# EAGLE library part FRDM-KL25Z (library ee192)
Shield for Freescale Freedom board FRDM-KL25Z 2012 by skot croshere 2013
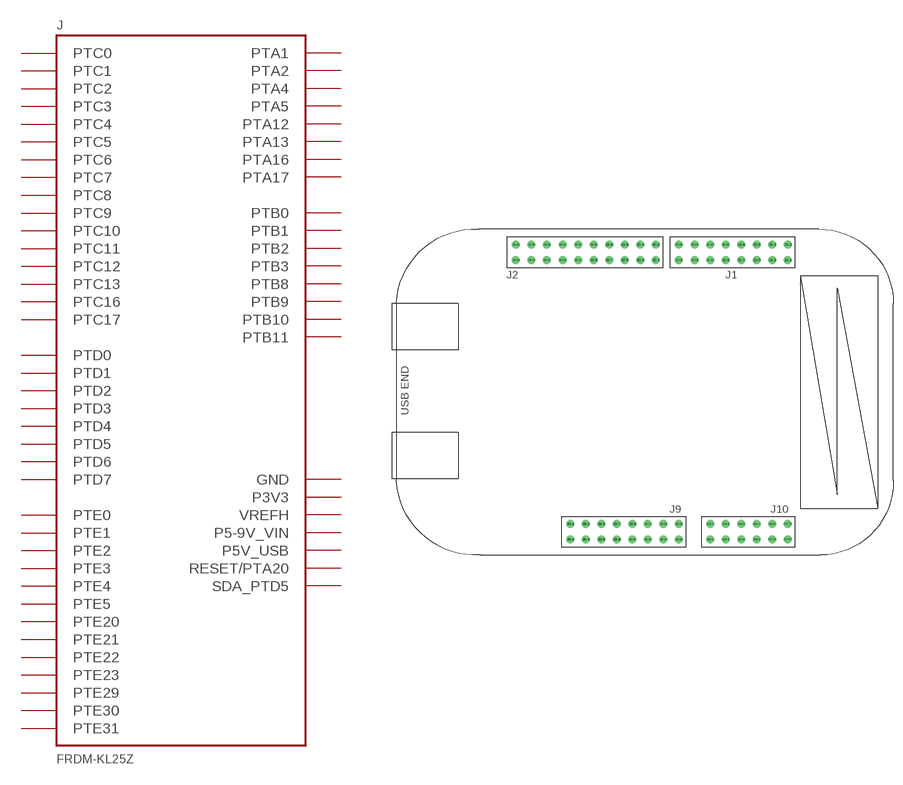
[diagram p0: symbol with the pads of FRDM-KL25Z; footprint FRDM-KL25Z]

Designator prefix J

## FRDM-KL25Z  [FRDM-KL25Z]
J1-1  PTC7
J1-2  PTA1
J1-3  PTC0
J1-4  PTA2
J1-5  PTC3
J1-6  PTD4
J1-7  PTC4
J1-8  PTA12
J1-9  PTC5
J1-10  PTA4
J1-11  PTC6
J1-12  PTA5
J1-13  PTC10
J1-14  PTC8
J1-15  PTC11
J1-16  PTC9
J2-1  PTC12
J2-2  PTA13
J2-3  PTC13
J2-4  PTD5
J2-5  PTC16
J2-6  PTD0
J2-7  PTC17
J2-8  PTD2
J2-9  PTA16
J2-10  PTD3
J2-11  PTA17
J2-12  PTD1
J2-13  PTE31
J2-14  GND
J2-16  VREFH
J2-17  PTD6
J2-18  PTE1
J2-19  PTD7
J2-20  PTE0
J9-1  PTB8
J9-2  SDA_PTD5
J9-3  PTB9
J9-4  P3V3
J9-5  PTB10
J9-6  RESET/PTA20
J9-7  PTB11
J9-8  P3V3
J9-9  PTE2
J9-10  P5V_USB
J9-11  PTE3
J9-12  GND
J9-13  PTE4
J9-14  GND
J9-15  PTE5
J9-16  P5-9V_VIN
J10-1  PTE20
J10-2  PTB0
J10-3  PTE21
J10-4  PTB1
J10-5  PTE22
J10-6  PTB2
J10-7  PTE23
J10-8  PTB3
J10-9  PTE29
J10-10  PTC2
J10-11  PTE30
J10-12  PTC1

## Footprint FRDM-KL25Z (pad centres in mm)
drill 0.8: J1-1 23.622,21.59; J1-2 23.622,24.13; J1-3 21.082,21.59; J1-4 21.082,24.13; J1-5 18.542,21.59; J1-6 18.542,24.13; J1-7 16.002,21.59; J1-8 16.002,24.13; J1-9 13.462,21.59; J1-10 13.462,24.13; J1-11 10.922,21.59; J1-12 10.922,24.13; J1-13 8.382,21.59; J1-14 8.382,24.13; J1-15 5.842,21.59; J1-16 5.842,24.13; J2-1 2.032,21.59; J2-2 2.032,24.13; J2-3 -0.508,21.59; J2-4 -0.508,24.13; J2-5 -3.048,21.59; J2-6 -3.048,24.13; J2-7 -5.588,21.59; J2-8 -5.588,24.13; J2-9 -8.128,21.59; J2-10 -8.128,24.13; J2-11 -10.668,21.59; J2-12 -10.668,24.13; J2-13 -13.208,21.59; J2-14 -13.208,24.13; J2-15 -15.748,21.59; J2-16 -15.748,24.13; J2-17 -18.288,21.59; J2-18 -18.288,24.13; J2-19 -20.828,21.59; J2-20 -20.828,24.13; J9-1 -11.938,-21.59; J9-2 -11.938,-24.13; J9-3 -9.398,-21.59; J9-4 -9.398,-24.13; J9-5 -6.858,-21.59; J9-6 -6.858,-24.13; J9-7 -4.318,-21.59; J9-8 -4.318,-24.13; J9-9 -1.778,-21.59; J9-10 -1.778,-24.13; J9-11 0.762,-21.59; J9-12 0.762,-24.13; J9-13 3.302,-21.59; J9-14 3.302,-24.13; J9-15 5.842,-21.59; J9-16 5.842,-24.13; J10-1 10.922,-21.59; J10-2 10.922,-24.13; J10-3 13.462,-21.59; J10-4 13.462,-24.13; J10-5 16.002,-21.59; J10-6 16.002,-24.13; J10-7 18.542,-21.59; J10-8 18.542,-24.13; J10-9 21.082,-21.59; J10-10 21.082,-24.13; J10-11 23.622,-21.59; J10-12 23.622,-24.13